# Altium footprint library SparkFun-Coils.PCBLIB: 26 footprints (part 1 of 2)
Each footprint in its own frame and in the unit in brackets; x right, y up, seen from the top. Pads: shape width x height; smd on the part's side, far side on the other; paste and mask are expansions set on the pad; w line width, h text height; cw(c..) or ccw(c..) is an arc to the next point about the centre after c.
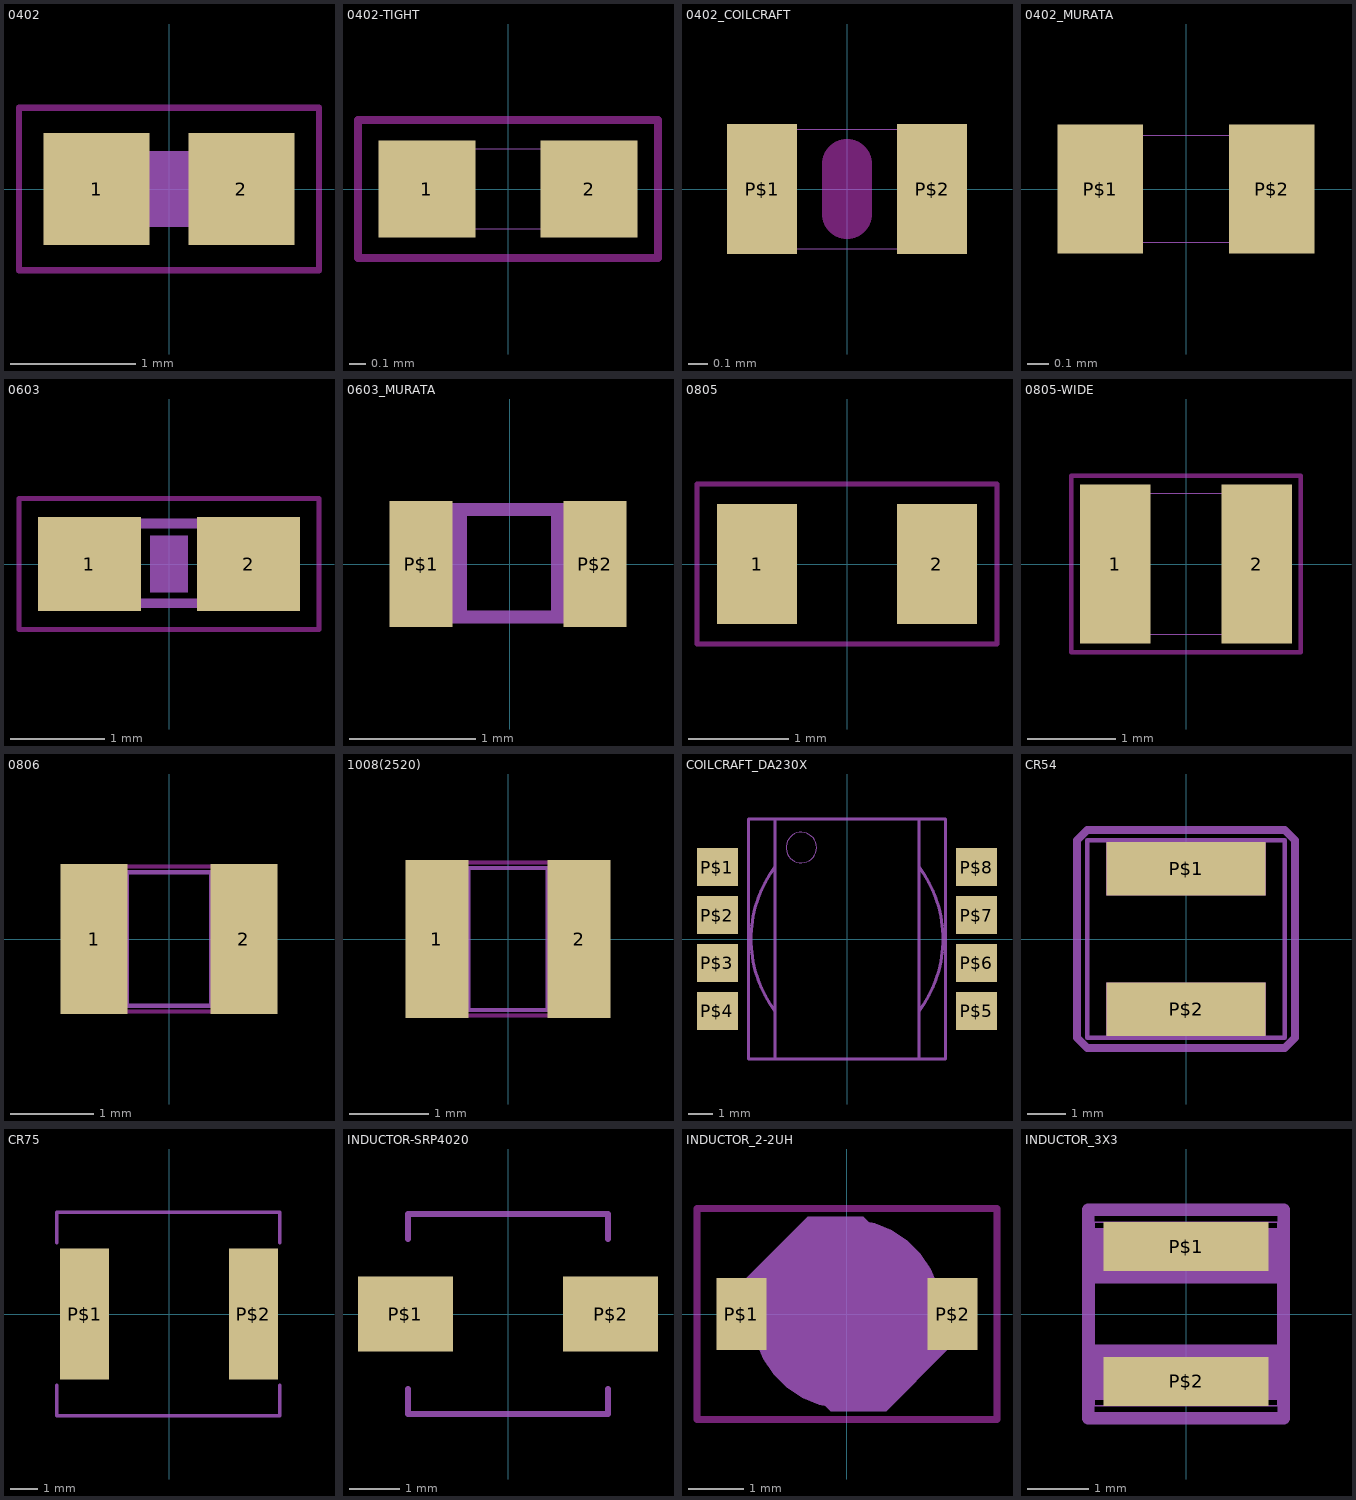
[diagram p0: the footprints below, top view; thin cyan lines are the x and y axes]

## 0402 [mm]
pads (2):
  rect 0.85x0.9 smd: 1(-0.58,0) 2(0.58,0)
Top keep-out:
  lines w0.051: -1.2,-0.65 1.2,-0.65 1.2,0.65 -1.2,0.65 -1.2,-0.65
tDocu:
  region: -0.554,-0.305 -0.554,0.305 -0.254,0.305 -0.254,-0.305
  region: 0.259,-0.305 0.259,0.305 0.559,0.305 0.559,-0.305
  lines w0.152: -0.271,-0.229 0.271,-0.229 ; -0.271,0.229 0.271,0.229
tGlue:
  region: -0.2,-0.3 -0.2,0.3 0.2,0.3 0.2,-0.3

## 0402-TIGHT [mm]
pads (2):
  rect 0.6x0.6 smd: 1(-0.5,0) 2(0.5,0)
Top keep-out:
  lines w0.05: -0.926,-0.426 -0.926,0.426 0.926,0.426 0.926,-0.426 -0.926,-0.426
tDocu:
  region: -0.5,-0.25 -0.5,0.25 -0.3,0.25 -0.3,-0.25
  region: 0.5,0.25 0.5,-0.25 0.3,-0.25 0.3,0.25
  lines w0.003: -0.5,-0.25 -0.5,0.25 0.5,0.25 0.5,-0.25 -0.5,-0.25

## 0402_COILCRAFT [mil]
pads (2):
  rect 14x26 smd: P$1(-17,0) P$2(17,0)
Top keep-out:
  lines w10: 0,-5 0,5
tDocu:
  region: -20,-10 -20,10 -12,10 -12,-10
  region: 12,-10 12,10 20,10 20,-10
  lines w0.1: -21.5,-12 -21.5,12 21.5,12 21.5,-12 -21.5,-12

## 0402_MURATA [mm]
pads (2):
  rect 0.4x0.6 smd mask+0: P$1(-0.4,0) P$2(0.4,0)
Top Solder:
  region: -0.6,-0.3 -0.6,0.3 -0.2,0.3 -0.2,-0.3
  region: 0.2,-0.3 0.2,0.3 0.6,0.3 0.6,-0.3
tDocu:
  region: -0.5,-0.25 -0.5,0.25 -0.3,0.25 -0.3,-0.25
  region: 0.5,0.25 0.5,-0.25 0.3,-0.25 0.3,0.25
  lines w0.003: -0.5,-0.25 -0.5,0.25 0.5,0.25 0.5,-0.25 -0.5,-0.25

## 0603 [mm]
pads (2):
  rect 1.1x1 smd: 1(-0.85,0) 2(0.85,0)
Top keep-out:
  lines w0.051: -1.6,-0.7 1.6,-0.7 1.6,0.7 -1.6,0.7 -1.6,-0.7
tDocu:
  region: -0.838,-0.47 -0.838,0.48 -0.338,0.48 -0.338,-0.47
  region: 0.33,-0.47 0.33,0.48 0.83,0.48 0.83,-0.47
  lines w0.102: -0.356,-0.419 0.356,-0.419 ; -0.356,0.432 0.356,0.432
tGlue:
  region: -0.2,-0.3 -0.2,0.3 0.2,0.3 0.2,-0.3

## 0603_MURATA [mm]
pads (2):
  rect 0.5x1 smd mask+0: P$1(-0.7,0) P$2(0.675,0)
Top Solder:
  region: -0.95,-0.5 -0.95,0.5 -0.45,0.5 -0.45,-0.5
  region: 0.425,-0.5 0.425,0.5 0.925,0.5 0.925,-0.5
tDocu:
  region: -0.838,-0.47 -0.838,0.48 -0.338,0.48 -0.338,-0.47
  region: 0.33,-0.47 0.33,0.48 0.83,0.48 0.83,-0.47
  lines w0.102: -0.356,-0.419 0.356,-0.419 ; -0.356,0.432 0.356,0.432

## 0805 [mil]
pads (2):
  rect 31.5x47.24 smd: 1(-35.43,0) 2(35.43,0)
Top keep-out:
  lines w2: -59.06,-31.5 59.06,-31.5 59.06,31.5 -59.06,31.5 -59.06,-31.5

## 0805-WIDE [mil]
pads (2):
  rect 31.5x70.87 smd: 1(-31.5,0) 2(31.5,0)
Top keep-out:
  lines w2: -51.18,-39.37 51.18,-39.37 51.18,39.37 -51.18,39.37 -51.18,-39.37
tDocu:
  lines w0.1: -39.37,-31.5 -39.37,31.5 39.37,31.5 39.37,-31.5 -39.37,-31.5

## 0806 [mil]
pads (2):
  rect 31.5x70.87 smd: 1(-35.43,0) 2(35.43,0)
Top keep-out:
  lines w1.97: -42.52,-34.25 -42.52,34.25 42.52,34.25 42.52,-34.25 -42.52,-34.25
tDocu:
  region: -39.76,-31.89 -39.76,31.89 -18.9,31.89 -18.9,-31.89
  region: 18.9,-31.89 18.9,32.28 39.76,32.28 39.76,-31.89
  lines w1.97: -39.37,-31.5 39.37,-31.5 39.37,31.5 -39.37,31.5 -39.37,-31.5

## 1008(2520) [mm]
pads (2):
  rect 0.8x2 smd: 1(-0.9,0) 2(0.9,0)
Top keep-out:
  lines w0.05: -1.08,-0.97 -1.08,0.97 1.08,0.97 1.08,-0.97 -1.08,-0.97
tDocu:
  region: -1.01,-0.91 -1.01,0.91 -0.48,0.91 -0.48,-0.91
  region: 0.48,-0.91 0.48,0.92 1.01,0.92 1.01,-0.91
  lines w0.05: -1,-0.9 1,-0.9 1,0.9 -1,0.9 -1,-0.9

## COILCRAFT_DA230X [mm]
pads (8):
  rect 1.7x1.6 smd: P$1(-5.4,3) P$2(-5.4,1) P$3(-5.4,-1) P$4(-5.4,-3) P$5(5.4,-3) P$6(5.4,-1) P$7(5.4,1) P$8(5.4,3)
tPlace:
  circle w0: c-1.905,3.81 r0.635
  lines w0.127: -3,-5 -4.1,-5 -4.1,5 -3,5 ; -3,-5 3,-5 ; -3,-5 -3,-3 ; -3,-3 -3,3 ; -3,-3 cw(c1,0) -3,3 ; -3,3 -3,5 ; -3,5 3,5 ; 3,-5 4.1,-5 4.1,5 3,5 ; 3,-5 3,-3 ; 3,-3 3,3 ; 3,-3 ccw(c-1,0) 3,3 ; 3,3 3,5

## CR54 [mm]
pads (2):
  rect 4.2x1.4 smd: P$1(0,1.85) P$2(0,-1.85)
tDocu:
  region: -2.1,1.15 -2.1,2.55 2.1,2.55 2.1,1.15
  region: -2.1,-2.55 -2.1,-1.15 2.1,-1.15 2.1,-2.55
  lines w0.127: -2.6,-2.6 -2.6,2.6 2.6,2.6 2.6,-2.6 -2.6,-2.6
tPlace:
  lines w0.203: -2.87,-2.6 -2.87,2.6 -2.6,2.87 2.6,2.87 2.87,2.6 2.87,-2.6 2.6,-2.87 -2.6,-2.87 -2.87,-2.6

## CR75 [mm]
pads (2):
  rect 1.75x4.7 smd: P$1(-3.025,0) P$2(3.025,0)
tPlace:
  lines w0.127: -4.025,-2.55 -4.025,-3.65 3.975,-3.65 3.975,-2.55 ; -4.025,2.55 -4.025,3.65 3.975,3.65 3.975,2.55

## INDUCTOR-SRP4020 [mm]
pads (2):
  rect 1.9x1.5 smd: P$1(-2.05,0) P$2(2.05,0)
tPlace:
  lines w0.127: -2,-1.5 -2,-2 2,-2 2,-1.5 ; -2,1.5 -2,2 2,2 2,1.5

## INDUCTOR_2-2UH [mm]
pads (2):
  rect 0.9x1.3 smd: P$1(-1.9,0) P$2(1.9,0)
Top keep-out:
  lines w0.127: -2.7,-1.9 2.7,-1.9 2.7,1.9 -2.7,1.9 -2.7,-1.9
tDocu:
  region: 0,-1.7 -0.167,-1.7 -0.496,-1.635 -0.805,-1.507 -1.084,-1.32 -1.32,-1.084 -1.507,-0.805 -1.635,-0.496 -1.7,-0.167 -1.7,0 -1.7,0.167 -1.635,0.496 -1.507,0.805 -1.32,1.084 -1.084,1.32 -0.805,1.507 -0.496,1.635 -0.167,1.7 0,1.7 0.167,1.7 0.496,1.635 0.805,1.507 1.084,1.32 1.32,1.084 1.507,0.805 1.635,0.496 1.7,0.167 1.7,0 1.7,-0.167 1.635,-0.496 1.507,-0.805 1.32,-1.084 1.084,-1.32 0.805,-1.507 0.496,-1.635 0.167,-1.7 0,-1.7
  region: -1.85,0.55 1.85,0.55 1.85,-0.55 -1.85,-0.55
  region: -1.8,0.5 -1.8,0.654 -0.703,1.75 0.294,1.75 0.5,1.545 0.5,0.5
  region: 1.8,-0.5 1.8,-0.654 0.703,-1.75 -0.294,-1.75 -0.5,-1.545 -0.5,-0.5

## INDUCTOR_3X3 [mil]
pads (2):
  rect 106.3x31.5 smd: P$1(0,43.31) P$2(0,-43.31)
tDocu:
  region: -59.06,19.69 -59.06,55.12 59.06,55.12 59.06,19.69
  region: 59.06,-19.69 59.06,-55.12 -59.06,-55.12 -59.06,-19.69
  lines w1: -59.06,-59.06 59.06,-59.06 59.06,59.06 -59.06,59.06 -59.06,-59.06
tPlace:
  lines w8: -62.99,-66.93 -62.99,66.93 62.99,66.93 62.99,-66.93 -62.99,-66.93